# EAGLE library part HEADER_POS22_? (library con-molex-micro-fit-3_0)
Molex - Micro-Fit 3.0 Series connector, 3.00mm (0.118") pitch header, 22 positions.
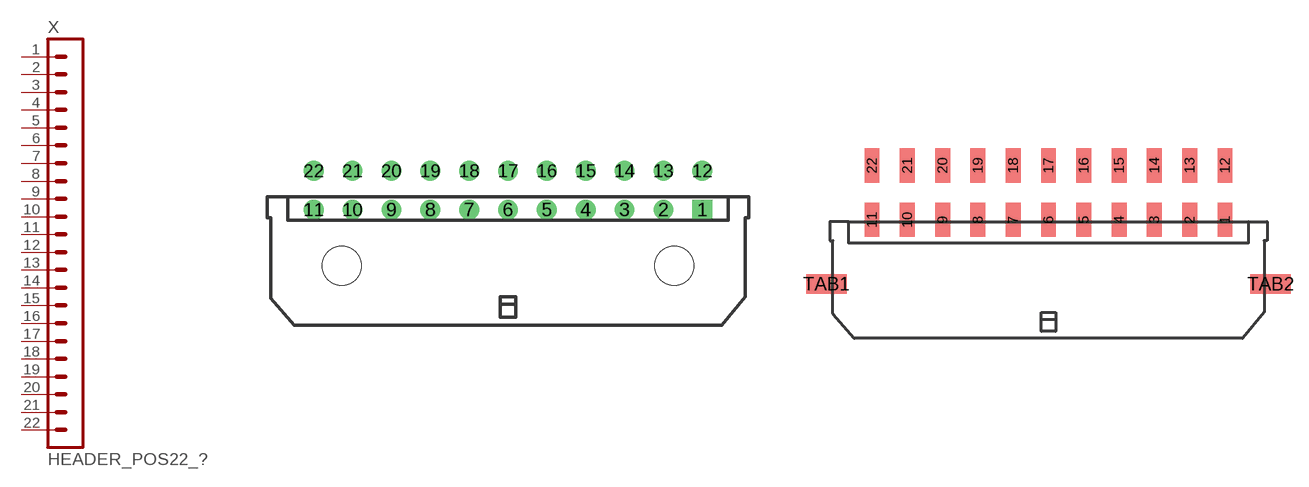
[diagram p11: symbol with the pads of 43045-2200; footprints 43045-2200, 43045-2209]

Designator prefix X

## HEADER_POS22_43045-2200  [43045-2200]
1  1  pas
2  2  pas
3  3  pas
4  4  pas
5  5  pas
6  6  pas
7  7  pas
8  8  pas
9  9  pas
10  10  pas
11  11  pas
12  12  pas
13  13  pas
14  14  pas
15  15  pas
16  16  pas
17  17  pas
18  18  pas
19  19  pas
20  20  pas
21  21  pas
22  22  pas

## HEADER_POS22_43045-2209  [43045-2209]
Pads as for 43045-2200

## HEADER_POS22_43045-2206  [43045-2206]
Pads as for 43045-2200

## HEADER_POS22_43045-2212  [43045-2212]
Pads as for 43045-2200

## HEADER_POS22_43045-2215  [43045-2215]
Pads as for 43045-2200

## HEADER_POS22_43045-2218  [43045-2218]
Pads as for 43045-2200

## HEADER_POS22_44914-2201  [44914-2201]
Pads as for 43045-2200

## HEADER_POS22_44769-2201  [44769-2201]
Pads as for 43045-2200

## HEADER_POS22_44432-2201  [44432-2201]
Pads as for 43045-2200

## HEADER_POS22_44428-2201  [44428-2201]
Pads as for 43045-2200

## HEADER_POS22_44764-2201  [44764-2201]
Pads as for 43045-2200

## Footprint 43045-2200 (pad centres in mm)
Molex Micro-Fit 3.0 - Header Shrouded, Thru hole, Right Angle; P/N: SD-43045-2200, SD-43045-2201, SD-43045-2202 http://www.molex.com/pdm_docs/sd/430450200_sd.pdf
drill 1.02 square: 1 15,4.32
drill 1.02: 2 12,4.32; 3 9,4.32; 4 6,4.32; 5 3,4.32; 6 0,4.32; 7 -3,4.32; 8 -6,4.32; 9 -9,4.32; 10 -12,4.32; 11 -15,4.32; 12 15,7.32; 13 12,7.32; 14 9,7.32; 15 6,7.32; 16 3,7.32; 17 0,7.32; 18 -3,7.32; 19 -6,7.32; 20 -9,7.32; 21 -12,7.32; 22 -15,7.32
hole 3 at 12.85,0
hole 3 at -12.85,0

## Footprint 43045-2209 (pad centres in mm)
Molex Micro-Fit 3.0 - Header Shrouded, Surface mount, Right Angle, Solderable tabs; P/N: SD-43045-2209, SD-43045-2210, SD-43045-2211 http://www.molex.com/pdm_docs/sd/430450209_sd.pdf
smd 1.27 x 2.92: 1 15,5.47; 2 12,5.47; 3 9,5.47; 4 6,5.47; 5 3,5.47; 6 0,5.47; 7 -3,5.47; 8 -6,5.47; 9 -9,5.47; 10 -12,5.47; 11 -15,5.47; 12 15,10.1; 13 12,10.1; 14 9,10.1; 15 6,10.1; 16 3,10.1; 17 0,10.1; 18 -3,10.1; 19 -6,10.1; 20 -9,10.1; 21 -12,10.1; 22 -15,10.1
smd 3.43 x 1.65: TAB1 -18.88,0; TAB2 18.88,0

## Footprint 43045-2206 (pad centres in mm)
Molex Micro-Fit 3.0 - Header Shrouded, Surface mount, Right Angle, Solderable Retention clips; P/N: SD-43045-2206, SD-43045-2207, SD-43045-2208 http://www.molex.com/pdm_docs/sd/430450206_sd.pdf
smd 1.27 x 2.92: 1 15,5.47; 2 12,5.47; 3 9,5.47; 4 6,5.47; 5 3,5.47; 6 0,5.47; 7 -3,5.47; 8 -6,5.47; 9 -9,5.47; 10 -12,5.47; 11 -15,5.47; 12 15,10.1; 13 12,10.1; 14 9,10.1; 15 6,10.1; 16 3,10.1; 17 0,10.1; 18 -3,10.1; 19 -6,10.1; 20 -9,10.1; 21 -12,10.1; 22 -15,10.1
hole 2.41 at -17.15,0
hole 2.41 at 17.15,0

## Footprint 43045-2212 (pad centres in mm)
Molex Micro-Fit 3.0 - Header Shrouded, Thru hole, Vertical, with Pegs; P/N: SD-43045-2212, SD-43045-2213, SD-43045-2214 http://www.molex.com/pdm_docs/sd/430450212_sd.pdf
drill 1.02 square: 1 15,0
drill 1.02: 2 12,0; 3 9,0; 4 6,0; 5 3,0; 6 0,0; 7 -3,0; 8 -6,0; 9 -9,0; 10 -12,0; 11 -15,0; 12 15,3; 13 12,3; 14 9,3; 15 6,3; 16 3,3; 17 0,3; 18 -3,3; 19 -6,3; 20 -9,3; 21 -12,3; 22 -15,3
hole 1.02 at 18,3.94
hole 1.02 at -18,3.94

## Footprint 43045-2215 (pad centres in mm)
Molex Micro-Fit 3.0 - Header Shrouded, Surface mount, Vertical, with Solderable Retention Clips; P/N: SD-43045-2215, SD-43045-2216, SD-43045-2217 http://www.molex.com/pdm_docs/sd/430450215_sd.pdf
smd 1.27 x 2.54: 1 15,-4.7; 2 12,-4.7; 3 9,-4.7; 4 6,-4.7; 5 3,-4.7; 6 0,-4.7; 7 -3,-4.7; 8 -6,-4.7; 9 -9,-4.7; 10 -12,-4.7; 11 -15,-4.7; 12 15,4.7; 13 12,4.7; 14 9,4.7; 15 6,4.7; 16 3,4.7; 17 0,4.7; 18 -3,4.7; 19 -6,4.7; 20 -9,4.7; 21 -12,4.7; 22 -15,4.7
hole 2.41 at -17.15,0
hole 2.41 at 17.15,0

## Footprint 43045-2218 (pad centres in mm)
Molex Micro-Fit 3.0 - Header Shrouded, Surface mount, Vertical, with Solder Tabs; P/N: SD-43045-2218, SD-43045-2219, SD-43045-2220 http://www.molex.com/pdm_docs/sd/430450218_sd.pdf
smd 1.27 x 2.54: 1 15,-4.7; 2 12,-4.7; 3 9,-4.7; 4 6,-4.7; 5 3,-4.7; 6 0,-4.7; 7 -3,-4.7; 8 -6,-4.7; 9 -9,-4.7; 10 -12,-4.7; 11 -15,-4.7; 12 15,4.7; 13 12,4.7; 14 9,4.7; 15 6,4.7; 16 3,4.7; 17 0,4.7; 18 -3,4.7; 19 -6,4.7; 20 -9,4.7; 21 -12,4.7; 22 -15,4.7
smd 3.43 x 1.65: CLIP1 -18.88,0; CLIP2 18.88,0

## Footprint 44914-2201 (pad centres in mm)
Molex Micro-Fit 3.0 - Header Shrouded, Thru hole, Vertical, Press-fit, with Pegs; P/N: SD-44914-2201, SD-44914-2202, SD-44914-2203 http://www.molex.com/pdm_docs/sd/449140201_sd.pdf
drill 1.09 square: 1 15,0
drill 1.09: 2 12,0; 3 9,0; 4 6,0; 5 3,0; 6 0,0; 7 -3,0; 8 -6,0; 9 -9,0; 10 -12,0; 11 -15,0; 12 15,3; 13 12,3; 14 9,3; 15 6,3; 16 3,3; 17 0,3; 18 -3,3; 19 -6,3; 20 -9,3; 21 -12,3; 22 -15,3
hole 1.02 at 18,3.94
hole 1.02 at -18,3.94

## Footprint 44769-2201 (pad centres in mm)
Molex Micro-Fit 3.0 - Board-to-Board BMI (Blind Mate Interface), Receptacle Vertical, Thru hole; P/N: SD-44769-2201, SD-44769-2202, SD-44769-2203 http://www.molex.com/pdm_docs/sd/447690401_sd.pdf
drill 1.02 square: 1 -15,0
drill 1.02: 2 -12,0; 3 -9,0; 4 -6,0; 5 -3,0; 6 0,0; 7 3,0; 8 6,0; 9 9,0; 10 12,0; 11 15,0; 12 -15,3; 13 -12,3; 14 -9,3; 15 -6,3; 16 -3,3; 17 0,3; 18 3,3; 19 6,3; 20 9,3; 21 12,3; 22 15,3
hole 2.36 at 18,3
hole 2.36 at -18,3

## Footprint 44432-2201 (pad centres in mm)
Molex Micro-Fit 3.0 - Board-to-Board BMI (Blind Mate Interface), Header Vertical, Thru hole, with Pegs; P/N: SD-44432-2201, SD-44432-2202, SD-44432-2203 http://www.molex.com/pdm_docs/sd/444320401_sd.pdf
drill 1.02 square: 1 15,-3
drill 1.02: 2 12,-3; 3 9,-3; 4 6,-3; 5 3,-3; 6 0,-3; 7 -3,-3; 8 -6,-3; 9 -9,-3; 10 -12,-3; 11 -15,-3; 12 15,0; 13 12,0; 14 9,0; 15 6,0; 16 3,0; 17 0,0; 18 -3,0; 19 -6,0; 20 -9,0; 21 -12,0; 22 -15,0
hole 1.57 at -19.5,1.45
hole 1.57 at 19.5,1.45

## Footprint 44428-2201 (pad centres in mm)
Molex Micro-Fit 3.0 - Board-to-Board BMI (Blind Mate Interface), Header Right Angle, Thru hole, with Pegs; P/N: SD-44428-2201, SD-44428-2202, SD-44428-2203 http://www.molex.com/pdm_docs/sd/444280401_sd.pdf
drill 1.02 square: 1 15,0
drill 1.02: 2 12,0; 3 9,0; 4 6,0; 5 3,0; 6 0,0; 7 -3,0; 8 -6,0; 9 -9,0; 10 -12,0; 11 -15,0; 12 15,3; 13 12,3; 14 9,3; 15 6,3; 16 3,3; 17 0,3; 18 -3,3; 19 -6,3; 20 -9,3; 21 -12,3; 22 -15,3
hole 3 at 12.84,-8.53
hole 3 at -12.84,-8.53

## Footprint 44764-2201 (pad centres in mm)
Molex Micro-Fit 3.0 - Board-to-Board BMI (Blind Mate Interface), Receptacle, Right Angle, Thru hole; P/N: SD-44764-2201, SD-44764-2202, SD-44764-2203 http://www.molex.com/pdm_docs/sd/447640401_sd.pdf
drill 1.02 square: 1 -15,0
drill 1.02: 2 -12,0; 3 -9,0; 4 -6,0; 5 -3,0; 6 0,0; 7 3,0; 8 6,0; 9 9,0; 10 12,0; 11 15,0; 12 -15,3; 13 -12,3; 14 -9,3; 15 -6,3; 16 -3,3; 17 0,3; 18 3,3; 19 6,3; 20 9,3; 21 12,3; 22 15,3
hole 2.36 at -13.5,-3.05
hole 2.36 at 13.5,-3.05